# Altium footprint library SparkFun-LED.PCBLIB: 30 footprints (part 2 of 2)
Each footprint in its own frame and in the unit in brackets; x right, y up, seen from the top. Pads: shape width x height; smd on the part's side, far side on the other; paste and mask are expansions set on the pad; w line width, h text height; cw(c..) or ccw(c..) is an arc to the next point about the centre after c.
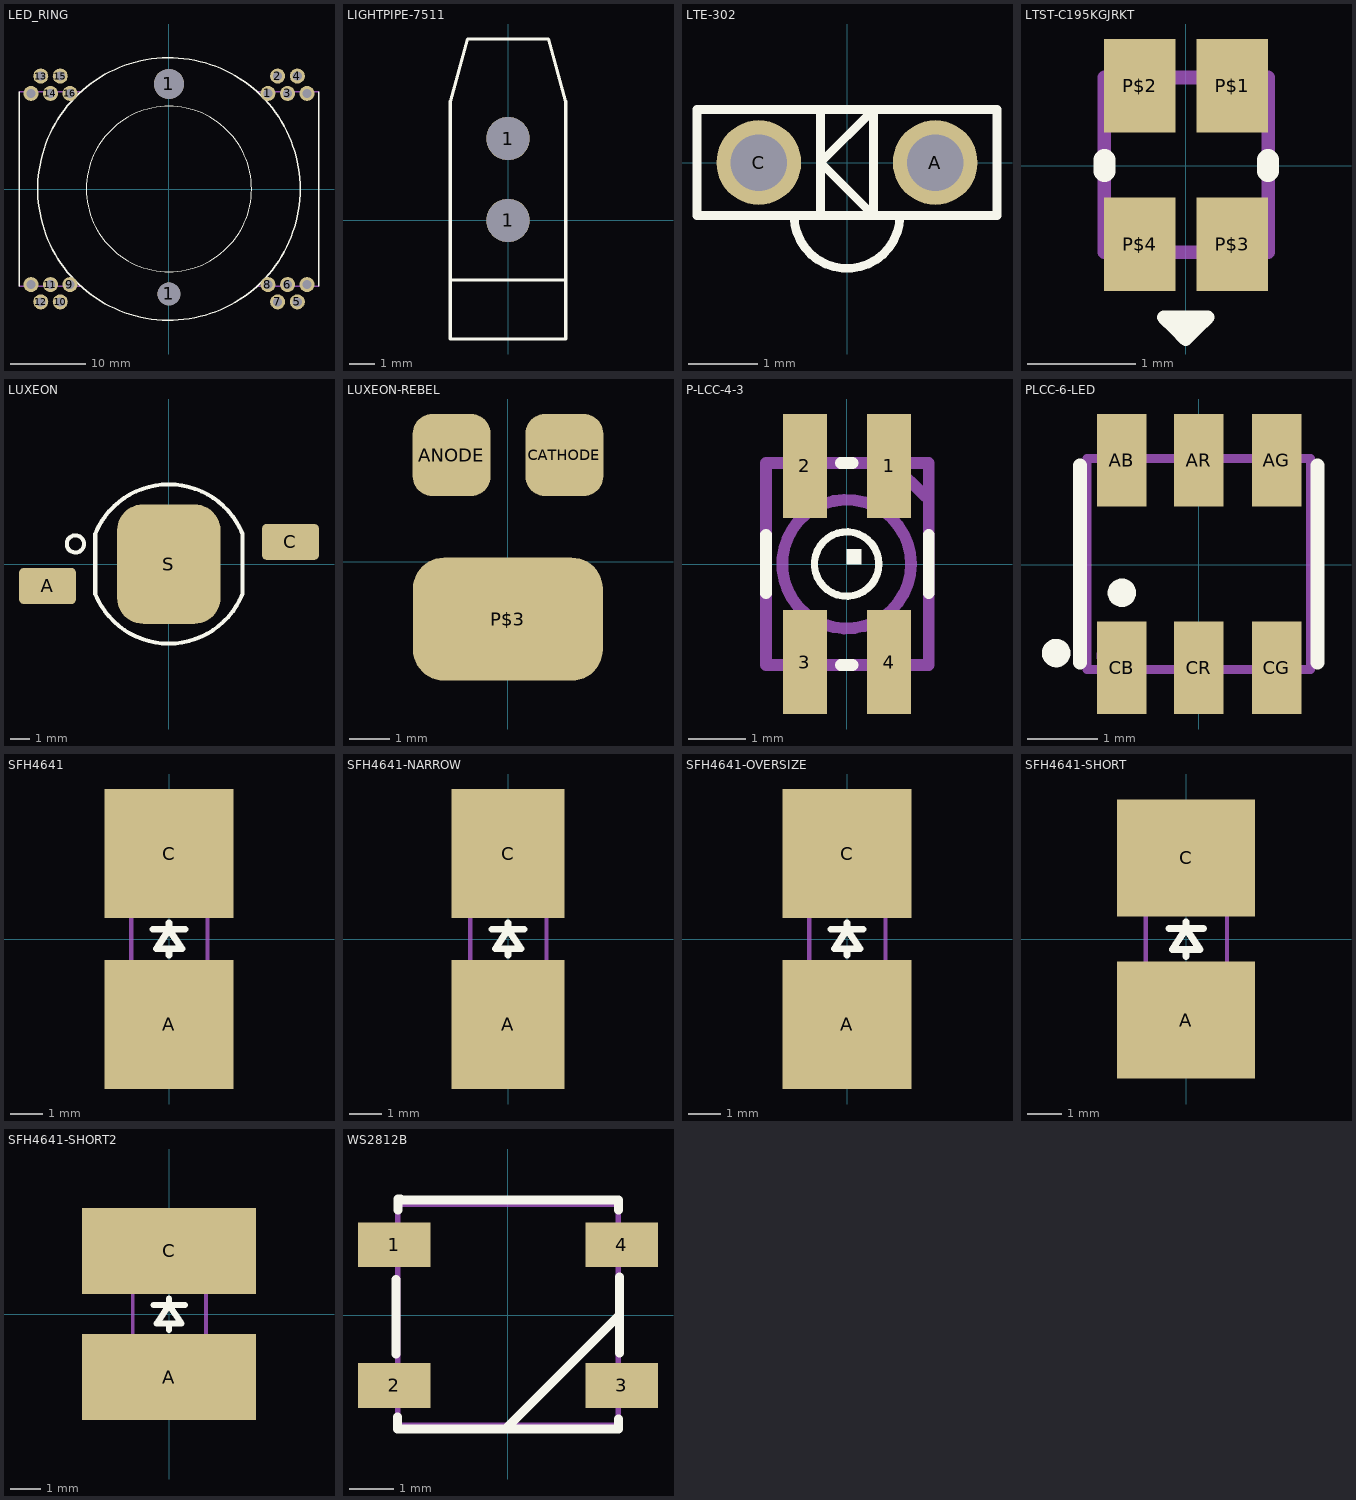
[diagram p1: the footprints below, top view; thin cyan lines are the x and y axes]

## LED_RING [mil]
pads (22):
  round 119 hole 119: 1(0,-551.18)
  round 158 hole 158: 1(0,552)
  round 79 hole 48: 1(520,502) 2(571,593) 3(623,502) 4(674,593) 5(674,-592.52) 6(623,-501.97) 7(571,-592.52) 8(520,-501.97) 9(-519.68,-501.97) 10(-570.87,-592.52) 11(-622.05,-501.97) 12(-673.23,-592.52) 13(-673.23,593) 14(-622.05,502) 15(-570.87,593) 16(-519.68,502) COM0(725,502) COM1(725,-501.97) COM2(-724.41,-501.97) COM3(-724.41,502)
Top Overlay:
  circle w7: c0,0 r689
  circle w5: c0,0 r434
  lines w7: -787.4,-511.81 -787.4,512 ; 788,-511.81 788,512
Mechanical 2:
  text ">Name" at -200,272 h108.5
Mechanical 4:
  text ">Value" at -200,-321.26 h108.5
Mechanical 16:
  lines w7: -787.4,-511.81 -460.63,-511.81 ; -787.4,512 -460.63,512 ; 461,-511.81 788,-511.81 ; 461,512 788,512

## LIGHTPIPE-7511 [mil]
pads (2):
  round 66 hole 66: 1(0,0) 1(0,125)
Top Overlay:
  lines w5: -88,-91 -88,-181 88,-181 88,-91 ; -88,-91 -88,182 -62,277 62,277 88,182 88,-91 ; -88,-91 88,-91

## LTE-302 [mil]
pads (2):
  round 48 hole 32: A(50,0) C(-50,0)
Top Overlay:
  lines w5: -30,-30 -15,-30 ; -30,-30 -85,-30 -85,30 -15,30 ; -30,-30 ccw(c0,-30) 30,-30 ; -15,-30 15,-30 ; -15,-30 -15,0 ; -15,0 15,30 ; -15,0 15,-30 ; -15,0 -15,30 ; -15,30 15,30 ; 15,-30 30,-30 ; 15,-30 15,30 ; 15,30 85,30 85,-30 30,-30

## LTST-C195KGJRKT [mil]
pads (4):
  rect 26x34 smd: P$1(17,29) P$2(-16.73,29) P$3(17,-28.54) P$4(-16.73,-28.54)
Top Overlay:
  lines w5: -3.94,-59.06 -7.87,-55.12 8,-55.12 4,-59.06 ; -3.94,-59.06 0,-62.99 4,-59.06 ; -3.94,-59.06 4,-59.06
  lines w8: -29.53,-1.97 -29.53,2 ; 30,-1.97 30,2
Mechanical 16:
  circle w5: c16,20 r4
  lines w5: -29.53,-31.5 30,-31.5 30,32 -29.53,32 -29.53,-31.5

## LUXEON [mil]
pads (3):
  rrect25% 113x71 smd: A(-240.16,-43.31) C(241,44)
  rrect50% 205x237 smd: S(0,0)
Top Overlay:
  circle w8: c-185.04,40 r17
  lines w8: -145.67,-59.06 -145.67,60 cw(c0,0.74) 0,158 cw(c0.16,0.49) 146,60 146,-59.06 cw(c-0.15,0.25) 0,-157.48 cw(c0.32,0) -145.67,-59.06
Mechanical 16:
  text "+" at -250,100 h77.5
  text "-" at 200,-100 h77.5

## LUXEON-REBEL [mil]
pads (3):
  rrect50% 76x80 smd: ANODE(-54.72,104) CATHODE(55,104)
  rrect50% 185x120 smd: P$3(0,-55.91)
Mechanical 2:
  text ">NAME" at -100,125 h31
Mechanical 4:
  text ">VALUE" at -100,-125 h31

## P-LCC-4-3 [mil]
pads (4):
  rect 30x71 smd: 1(29,67) 2(-28.54,67) 3(-28.54,-66.93) 4(29,-66.93)
Top Overlay:
  circle w5: c0,0 r22
  region: 0,0 10,0 10,10 0,10
  lines w8: -55.12,-20 -55.12,20 ; -4,-68.9 4,-68.9 ; -4,69 4,69 ; 56,-20 56,20
Mechanical 2:
  text ">NAME" at 116,-96.59 h77.5
Mechanical 4:
  text ">VALUE" at 175,-96.53 h77.5
Mechanical 16:
  circle w8: c0,0 r44
  lines w8: 32,68 54,46 ; -55.12,-68.9 56,-68.9 56,69 -55.12,69 -55.12,-68.9

## PLCC-6-LED [mil]
pads (6):
  rect 28x52 smd: AB(-43.31,59) AG(44,59) AR(0,59) CB(-43.31,-58.07) CG(44,-58.07) CR(0,-58.07)
Top Overlay:
  circle w8: c-43.31,-15.75 r4
  circle w8: c-80.31,-49.75 r4
  lines w8: -66.93,-55.12 -66.93,56 ; 67,-55.12 67,56
Mechanical 2:
  text ">Name" at -47.24,97 h31
Mechanical 4:
  text ">Value" at -51.18,-122.05 h31
Mechanical 16:
  circle w5: c-51.18,-51.18 r4
  lines w5: -62.99,-59.06 63,-59.06 63,60 -62.99,60 -62.99,-59.06

## SFH4641 [mil]
pads (2):
  rect 158x158 smd: A(0,-104.33) C(0,105)
Top Overlay:
  lines w8: -19.68,12 0,12 ; 0,-19.68 0,-11.81 ; 0,20 0,12 ; 20,12 0,12 ; 0,-11.81 -15.75,-11.81 0,12 ; 0,-11.81 16,-11.81 0,12
Top Paste:
  rectangle: -47.24,26 48,79
  region: 48,-25.59 -47.24,-25.59 -47.24,-78.74 48,-78.74
Top Solder:
  rectangle: -47.24,26 48,79
  region: 48,-25.59 -47.24,-25.59 -47.24,-78.74 48,-78.74
Mechanical 2:
  text ">NAME" at -82.62,-38.94 h24.8
Mechanical 4:
  text ">VALUE" at 98,-40 h24.8
Mechanical 16:
  lines w5: -19.68,12 0,12 ; 0,-19.68 0,-11.81 ; 0,20 0,12 ; 20,12 0,12 ; 0,-11.81 -15.75,-11.81 0,12 ; 0,-11.81 16,-11.81 0,12 ; -46.26,-64.96 -46.26,65 47,65 47,-64.96 -46.26,-64.96

## SFH4641-NARROW [mil]
pads (2):
  rect 138x158 smd: A(0,-104.33) C(0,105)
Top Overlay:
  lines w8: -19.68,12 0,12 ; 0,-19.68 0,-11.81 ; 0,20 0,12 ; 20,12 0,12 ; 0,-11.81 -15.75,-11.81 0,12 ; 0,-11.81 16,-11.81 0,12
Top Paste:
  rectangle: -47.24,26 48,79
  region: 48,-25.59 -47.24,-25.59 -47.24,-78.74 48,-78.74
Top Solder:
  rectangle: -47.24,26 48,79
  region: 48,-25.59 -47.24,-25.59 -47.24,-78.74 48,-78.74
Mechanical 2:
  text ">NAME" at -82.62,-38.94 h24.8
Mechanical 4:
  text ">VALUE" at 98,-40 h24.8
Mechanical 16:
  lines w5: -19.68,12 0,12 ; 0,-19.68 0,-11.81 ; 0,20 0,12 ; 20,12 0,12 ; 0,-11.81 -15.75,-11.81 0,12 ; 0,-11.81 16,-11.81 0,12 ; -46.26,-64.96 -46.26,65 47,65 47,-64.96 -46.26,-64.96

## SFH4641-OVERSIZE [mil]
pads (2):
  rect 158x158 smd: A(0,-104.33) C(0,105)
Top Overlay:
  lines w8: -19.68,12 0,12 ; 0,-19.68 0,-11.81 ; 0,20 0,12 ; 20,12 0,12 ; 0,-11.81 -15.75,-11.81 0,12 ; 0,-11.81 16,-11.81 0,12
Top Paste:
  rectangle: -55.12,26 56,87
  rectangle: -55.12,-86.61 56,-25.59
Top Solder:
  rectangle: -55.12,26 56,87
  rectangle: -55.12,-86.61 56,-25.59
Mechanical 2:
  text ">NAME" at -82.62,-38.94 h24.8
Mechanical 4:
  text ">VALUE" at 98,-40 h24.8
Mechanical 16:
  lines w5: -19.68,12 0,12 ; 0,-19.68 0,-11.81 ; 0,20 0,12 ; 20,12 0,12 ; 0,-11.81 -15.75,-11.81 0,12 ; 0,-11.81 16,-11.81 0,12 ; -46.26,-64.96 -46.26,65 47,65 47,-64.96 -46.26,-64.96

## SFH4641-SHORT [mil]
pads (2):
  rect 158x134 smd: A(0,-92.52) C(0,93)
Top Overlay:
  lines w8: -19.68,12 0,12 ; 0,-19.68 0,-11.81 ; 0,20 0,12 ; 20,12 0,12 ; 0,-11.81 -15.75,-11.81 0,12 ; 0,-11.81 16,-11.81 0,12
Top Paste:
  rectangle: -47.24,26 48,79
  region: 48,-25.59 -47.24,-25.59 -47.24,-78.74 48,-78.74
Top Solder:
  rectangle: -47.24,26 48,79
  region: 48,-25.59 -47.24,-25.59 -47.24,-78.74 48,-78.74
Mechanical 2:
  text ">NAME" at -82.62,-38.94 h24.8
Mechanical 4:
  text ">VALUE" at 98,-40 h24.8
Mechanical 16:
  lines w5: -19.68,12 0,12 ; 0,-19.68 0,-11.81 ; 0,20 0,12 ; 20,12 0,12 ; 0,-11.81 -15.75,-11.81 0,12 ; 0,-11.81 16,-11.81 0,12 ; -46.26,-64.96 -46.26,65 47,65 47,-64.96 -46.26,-64.96

## SFH4641-SHORT2 [mil]
pads (2):
  rect 222x110 smd: A(0,-80.12) C(0,81)
Top Overlay:
  lines w8: -19.68,12 0,12 ; 0,-19.68 0,-11.81 ; 0,20 0,12 ; 20,12 0,12 ; 0,-11.81 -15.75,-11.81 0,12 ; 0,-11.81 16,-11.81 0,12
Top Paste:
  rectangle: -55.12,26 56,87
  rectangle: -55.12,-86.61 56,-25.59
Top Solder:
  rectangle: -55.12,26 56,87
  rectangle: -55.12,-86.61 56,-25.59
Mechanical 2:
  text ">NAME" at -82.62,-38.94 h24.8
Mechanical 4:
  text ">VALUE" at 98,-40 h24.8
Mechanical 16:
  lines w5: -19.68,12 0,12 ; 0,-19.68 0,-11.81 ; 0,20 0,12 ; 20,12 0,12 ; 0,-11.81 -15.75,-11.81 0,12 ; 0,-11.81 16,-11.81 0,12 ; -46.26,-64.96 -46.26,65 47,65 47,-64.96 -46.26,-64.96

## WS2812B [mil]
pads (4):
  rect 65x40 smd: 1(-101.46,63) 2(-101.46,-62.99) 3(102,-62.99) 4(102,63)
Top Overlay:
  lines w8: -100,-35 -100,32 ; -98.8,-91.3 -98.8,-102 -96.8,-102 -96.8,-102.1 99,-102.1 99,-93.2 ; -98,94 -98,104 -96,104 -96,103 99,103 99,94 ; 0,-100 100,0 ; 100,-34 100,0 ; 100,34 100,0
Mechanical 2:
  text ">NAME" at 168,48 h62
Mechanical 4:
  text ">VALUE" at 168,-62.99 h37.2
Mechanical 16:
  lines w5: -98.43,-98.43 -98.43,99 99,99 99,-98.43 -98.43,-98.43